# Altium footprint library fuse.PcbLib: 36 footprints (part 1 of 3)
Each footprint in its own frame and in the unit in brackets; x right, y up, seen from the top. Pads: shape width x height; smd on the part's side, far side on the other; paste and mask are expansions set on the pad; w line width, h text height; cw(c..) or ccw(c..) is an arc to the next point about the centre after c.
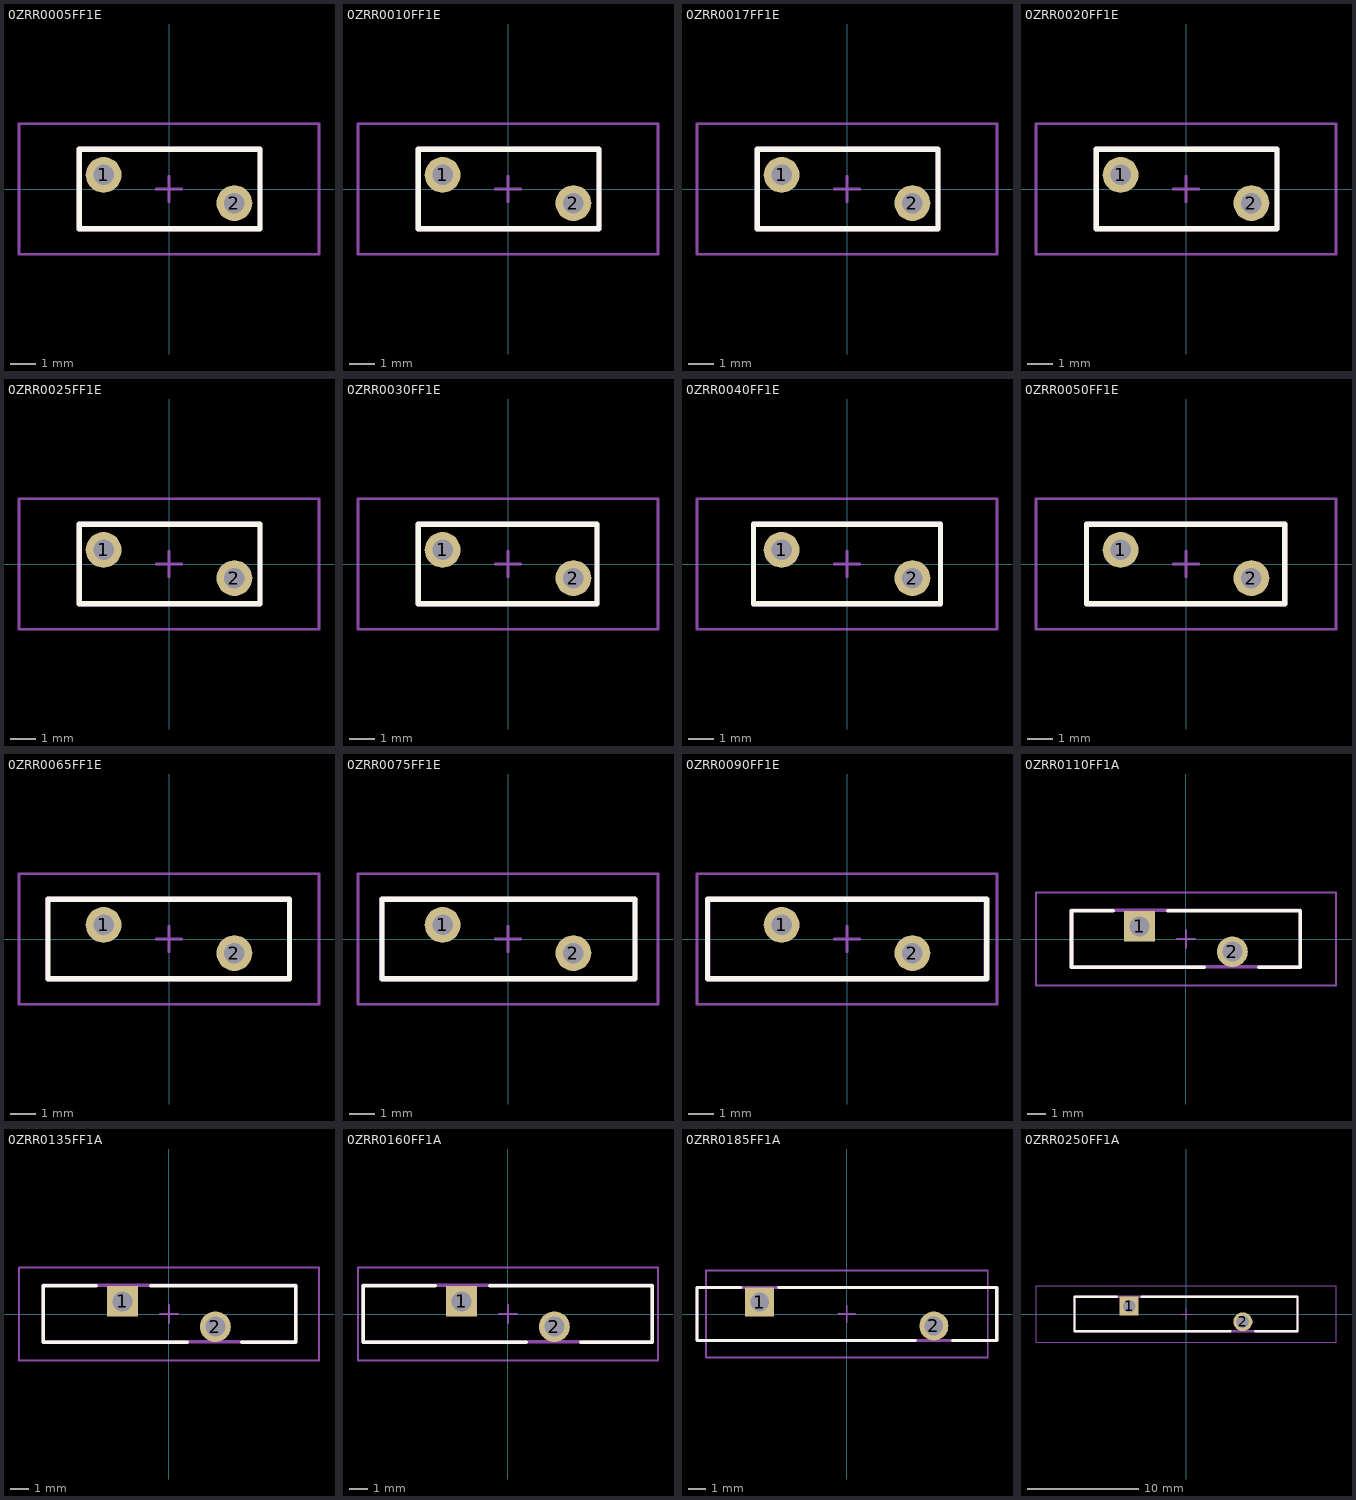
[diagram p0: the footprints below, top view; thin cyan lines are the x and y axes]

## 0ZRR0005FF1E [mm] "OZRR0005FF1E Ф7.4 h13.0 w3.1 c/f5.1 1.1 Ф0.51 mm"
pads (2):
  round 1.4 hole 0.8: 1(-2.55,0.55) 2(2.55,-0.55)
Top Overlay:
  lines w0.2: -3.5,-1.55 -3.5,1.55 3.55,1.55 3.55,-1.55 -3.5,-1.55
Top Designator:
  text ".Designator" at -3.174,1.975 h0.6
Top Assembly:
  lines w0.2: -3.5,-1.548 -3.5,1.552 3.55,1.552 3.55,-1.548 -3.5,-1.548
Top Courtyard:
  lines w0.1: -0.5,0 0.5,0 ; 0,-0.5 0,0.5 ; -3.475,-1.55 3.55,-1.55 3.55,1.55 -3.475,1.55 -3.475,-1.55
Mechanical 20:
  lines w0.1: -5.85,-2.55 -5.85,2.55 5.85,2.55 5.85,-2.55 -5.85,-2.55
3D body "0ZRR0005FF1E.stp": height 7.85, standoff -7.25, extent -2.805,-1.01 2.805,1.01

## 0ZRR0010FF1E [mm] "OZRR0010FF1E Ф7.4 h13.0 w3.1 c/f5.1 1.1 Ф0.51 mm"
pads (2):
  round 1.4 hole 0.8: 1(-2.55,0.55) 2(2.55,-0.55)
Top Overlay:
  lines w0.2: -3.5,-1.55 3.55,-1.55 3.55,1.55 -3.5,1.55 -3.5,-1.55
Top Designator:
  text ".Designator" at -3.174,1.975 h0.6
Top Assembly:
  lines w0.2: -3.5,-1.548 3.55,-1.548 3.55,1.552 -3.5,1.552 -3.5,-1.548
Top Courtyard:
  lines w0.1: -0.5,0 0.5,0 ; 0,-0.5 0,0.5 ; -3.475,-1.55 -3.475,1.55 3.55,1.55 3.55,-1.55 -3.475,-1.55
Mechanical 20:
  lines w0.1: -5.85,-2.55 5.85,-2.55 5.85,2.55 -5.85,2.55 -5.85,-2.55
3D body "0ZRR0010FF1E.stp": height 7.85, standoff -7.25, extent -2.803,-1.01 2.803,1.01

## 0ZRR0017FF1E [mm] "OZRR0017FF1E Ф7.4 h13.0 w3.1 c/f5.1 1.1 Ф0.51 mm"
pads (2):
  round 1.4 hole 0.8: 1(-2.55,0.55) 2(2.55,-0.55)
Top Overlay:
  lines w0.2: -3.5,-1.55 3.55,-1.55 3.55,1.55 -3.5,1.55 -3.5,-1.55
Top Designator:
  text ".Designator" at -3.174,1.975 h0.6
Top Assembly:
  lines w0.2: -3.5,-1.548 3.55,-1.548 3.55,1.552 -3.5,1.552 -3.5,-1.548
Top Courtyard:
  lines w0.1: -0.5,0 0.5,0 ; 0,-0.5 0,0.5 ; -3.475,-1.55 -3.475,1.55 3.55,1.55 3.55,-1.55 -3.475,-1.55
Mechanical 20:
  lines w0.1: -5.85,-2.55 5.85,-2.55 5.85,2.55 -5.85,2.55 -5.85,-2.55
3D body "0ZRR0017FF1E.stp": height 8.3, standoff -7.6, extent -2.803,-1.01 2.803,1.01

## 0ZRR0020FF1E [mm] "OZRR0020FF1E Ф7.4 h13.0 w3.1 c/f5.1 1.1 Ф0.51 mm"
pads (2):
  round 1.4 hole 0.8: 1(-2.55,0.55) 2(2.55,-0.55)
Top Overlay:
  lines w0.2: -3.5,-1.55 -3.5,1.55 3.55,1.55 3.55,-1.55 -3.5,-1.55
Top Designator:
  text ".Designator" at -3.174,1.975 h0.6
Top Assembly:
  lines w0.2: -3.5,-1.548 -3.5,1.552 3.55,1.552 3.55,-1.548 -3.5,-1.548
Top Courtyard:
  lines w0.1: -0.5,0 0.5,0 ; 0,-0.5 0,0.5 ; -3.475,-1.55 3.55,-1.55 3.55,1.55 -3.475,1.55 -3.475,-1.55
Mechanical 20:
  lines w0.1: -5.85,-2.55 -5.85,2.55 5.85,2.55 5.85,-2.55 -5.85,-2.55
3D body "0ZRR0020FF1E.stp": height 8.6, standoff -7.6, extent -2.805,-1.01 2.805,1.01

## 0ZRR0025FF1E [mm] "OZRR0025FF1E Ф7.4 h13.0 w3.1 c/f5.1 1.1 Ф0.51 mm"
pads (2):
  round 1.4 hole 0.8: 1(-2.55,0.55) 2(2.55,-0.55)
Top Overlay:
  lines w0.2: -3.5,-1.55 3.55,-1.55 3.55,1.55 -3.5,1.55 -3.5,-1.55
Top Designator:
  text ".Designator" at -3.174,1.975 h0.6
Top Assembly:
  lines w0.2: -3.5,-1.548 3.55,-1.548 3.55,1.552 -3.5,1.552 -3.5,-1.548
Top Courtyard:
  lines w0.1: -0.5,0 0.5,0 ; 0,-0.5 0,0.5 ; -3.475,-1.55 -3.475,1.55 3.55,1.55 3.55,-1.55 -3.475,-1.55
Mechanical 20:
  lines w0.1: -5.85,-2.55 5.85,-2.55 5.85,2.55 -5.85,2.55 -5.85,-2.55
3D body "0ZRR0025FF1E.stp": height 8.6, standoff -7.6, extent -2.803,-1.01 2.803,1.01

## 0ZRR0030FF1E [mm] "OZRR0030FF1E Ф7.4 h13.0 w3.1 c/f5.1 1.1 Ф0.51 mm"
pads (2):
  round 1.4 hole 0.8: 1(-2.55,0.55) 2(2.55,-0.55)
Top Overlay:
  lines w0.2: -3.5,-1.55 -3.5,1.55 3.475,1.55 3.475,-1.55 -3.5,-1.55
Top Designator:
  text ".Designator" at -3.174,1.975 h0.6
Top Assembly:
  lines w0.2: -3.5,-1.548 -3.5,1.552 3.475,1.552 3.475,-1.548 -3.5,-1.548
Top Courtyard:
  lines w0.1: -0.5,0 0.5,0 ; 0,-0.5 0,0.5 ; -3.5,-1.55 3.475,-1.55 3.475,1.55 -3.5,1.55 -3.5,-1.55
Mechanical 20:
  lines w0.1: -5.85,-2.55 -5.85,2.55 5.85,2.55 5.85,-2.55 -5.85,-2.55
3D body "0ZRR0030FF1E.stp": height 9.7, standoff -4.99, extent -3.225,-0.985 3.175,1.035

## 0ZRR0040FF1E [mm] "OZRR0040FF1E Ф7.6 h13.5 w3.1 c/f5.1 1.1 Ф0.51 mm"
pads (2):
  round 1.4 hole 0.8: 1(-2.55,0.55) 2(2.55,-0.55)
Top Overlay:
  lines w0.2: -3.65,-1.55 -3.65,1.55 3.65,1.55 3.65,-1.55 -3.65,-1.55
Top Designator:
  text ".Designator" at -3.174,1.975 h0.6
Top Assembly:
  lines w0.2: -3.65,-1.548 -3.65,1.552 3.65,1.552 3.65,-1.548 -3.65,-1.548
Top Courtyard:
  lines w0.1: -0.5,0 0.5,0 ; 0,-0.5 0,0.5 ; -3.65,-1.55 3.65,-1.55 3.65,1.55 -3.65,1.55 -3.65,-1.55
Mechanical 20:
  lines w0.1: -5.85,-2.55 -5.85,2.55 5.85,2.55 5.85,-2.55 -5.85,-2.55
3D body "0ZRR0040FF1E.stp": height 10.5, standoff -4.49, extent -3.5,-0.985 3.5,1.035

## 0ZRR0050FF1E [mm] "OZRR0050FF1E Ф7.9 h13.7 w3.1 c/f5.1 1.1 Ф0.51 mm"
pads (2):
  round 1.4 hole 0.8: 1(-2.55,0.55) 2(2.55,-0.55)
Top Overlay:
  lines w0.2: -3.875,-1.55 3.85,-1.55 3.85,1.55 -3.875,1.55 -3.875,-1.55
Top Designator:
  text ".Designator" at -3.174,1.975 h0.6
Top Assembly:
  lines w0.2: -3.875,-1.548 3.85,-1.548 3.85,1.552 -3.875,1.552 -3.875,-1.548
Top Courtyard:
  lines w0.1: -0.5,0 0.5,0 ; 0,-0.5 0,0.5 ; -3.875,-1.55 -3.875,1.55 3.85,1.55 3.85,-1.55 -3.875,-1.55
Mechanical 20:
  lines w0.1: -5.85,-2.55 5.85,-2.55 5.85,2.55 -5.85,2.55 -5.85,-2.55
3D body "0ZRR0050FF1E.stp": height 10.7, standoff -4.49, extent -3.698,-1.01 3.699,1.01

## 0ZRR0065FF1E [mm] "OZRR0065FF1E Ф9.7 h145 w3.1 c/f5.1 1.1 Ф0.51 mm"
pads (2):
  round 1.4 hole 0.8: 1(-2.55,0.55) 2(2.55,-0.55)
Top Overlay:
  lines w0.2: -4.725,-1.55 -4.725,1.55 4.7,1.55 4.7,-1.55 -4.725,-1.55
Top Designator:
  text ".Designator" at -3.174,1.975 h0.6
Top Assembly:
  lines w0.2: -4.732,-1.548 -4.732,1.552 4.7,1.552 4.7,-1.548 -4.732,-1.548
Top Courtyard:
  lines w0.1: -0.5,0 0.5,0 ; 0,-0.5 0,0.5 ; -4.725,-1.55 4.7,-1.55 4.7,1.55 -4.725,1.55 -4.725,-1.55
Mechanical 20:
  lines w0.1: -5.85,-2.55 -5.85,2.55 5.85,2.55 5.85,-2.55 -5.85,-2.55
3D body "0ZRR0065FF1E.stp": height 4.55, standoff -15.55, extent -4.548,-1.01 4.548,1.01

## 0ZRR0075FF1E [mm] "OZRR0075FF1E Ф10.4 h15.2 w3.1 c/f5.1 1.1 Ф0.51 mm"
pads (2):
  round 1.4 hole 0.8: 1(-2.55,0.55) 2(2.55,-0.55)
Top Overlay:
  lines w0.2: -4.916,-1.55 4.95,-1.55 4.95,1.55 -4.916,1.55 -4.916,-1.55
Top Designator:
  text ".Designator" at -3.174,1.975 h0.6
Top Assembly:
  lines w0.2: -4.925,-1.548 4.95,-1.548 4.95,1.552 -4.925,1.552 -4.925,-1.548
Top Courtyard:
  lines w0.1: -0.5,0 0.5,0 ; 0,-0.5 0,0.5 ; -4.925,-1.55 -4.925,1.55 4.95,1.55 4.95,-1.55 -4.925,-1.55
Mechanical 20:
  lines w0.1: -5.85,-2.55 5.85,-2.55 5.85,2.55 -5.85,2.55 -5.85,-2.55
3D body "0ZRR0075FF1E.stp": height 13.8, standoff -7.3, extent -4.775,-1.01 4.825,1.01

## 0ZRR0090FF1E [mm] "OZRR0090FF1E Ф11.7 h15.8 w3.1 c/f5.1 1.1 Ф0.51 mm"
pads (2):
  round 1.4 hole 0.8: 1(-2.55,0.55) 2(2.55,-0.55)
Top Overlay:
  lines w0.2: -5.437,-1.55 -5.437,1.55 5.45,1.55 5.45,-1.55 -5.437,-1.55
Top Designator:
  text ".Designator" at -3.174,1.975 h0.6
Top Assembly:
  lines w0.2: -5.425,-1.548 -5.425,1.552 5.425,1.552 5.425,-1.548 -5.425,-1.548
Top Courtyard:
  lines w0.1: -0.5,0 0.5,0 ; 0,-0.5 0,0.5 ; -5.425,-1.55 5.425,-1.55 5.425,1.55 -5.425,1.55 -5.425,-1.55
Mechanical 20:
  lines w0.1: -5.85,-2.55 -5.85,2.55 5.85,2.55 5.85,-2.55 -5.85,-2.55
3D body "0ZRR0090FF1E.stp": height 14.25, standoff -7.55, extent -5.249,-1.013 5.25,1.01

## 0ZRR0110FF1A [mm] "OZRR0110FF1A Ф13.0 h18.0 w3.1 c/f5.1 1.4 Ф0.81 mm"
pads (2):
  rect 1.7x1.7 hole 1.1: 1(-2.55,0.7)
  round 1.7 hole 1.1: 2(2.55,-0.7)
Top Overlay:
  lines w0.2: -4,1.55 -6.3,1.55 -6.3,-1.55 1,-1.55 ; -1,1.55 6.275,1.55 6.275,-1.55 4,-1.55
Top Designator:
  text ".Designator" at -3.199,1.975 h0.6
Top Assembly:
  lines w0.2: -1.025,1.575 -6.3,1.575 -6.3,-1.525 1,-1.525 6.275,-1.525 6.275,1.575 -1,1.575
Top Courtyard:
  lines w0.1: -0.5,0 0.5,0 ; 0,-0.5 0,0.5 ; -6.325,-1.55 -6.325,1.55 6.275,1.55 6.275,-1.55 -6.325,-1.55
Mechanical 20:
  lines w0.1: -8.25,-2.55 -8.25,2.55 8.25,2.55 8.25,-2.55 -8.25,-2.55
3D body "0ZRR0110FF1A.stp": height 14.1, standoff -6.8, extent -6.1,-1.36 6.1,1.36

## 0ZRR0135FF1A [mm] "OZRR0135FF1A Ф14.5 h19.6 w3.1 c/f5.1 1.4 Ф0.81 mm"
pads (2):
  rect 1.7x1.7 hole 1.1: 1(-2.55,0.7)
  round 1.7 hole 1.1: 2(2.55,-0.7)
Top Overlay:
  lines w0.2: -4,1.55 -6.925,1.55 -6.925,-1.55 1,-1.55 ; -1,1.55 6.975,1.55 6.975,-1.55 4,-1.55
Top Designator:
  text ".Designator" at -3.199,1.975 h0.6
Top Assembly:
  lines w0.2: -1.025,1.575 -6.925,1.575 -6.925,-1.525 1,-1.525 6.975,-1.525 6.975,1.575 -1,1.575
Top Courtyard:
  lines w0.1: -0.5,0 0.5,0 ; 0,-0.5 0,0.5 ; -6.9,-1.55 6.95,-1.55 6.95,1.55 -6.9,1.55 -6.9,-1.55
Mechanical 20:
  lines w0.1: -8.25,-2.55 8.25,-2.55 8.25,2.55 -8.25,2.55 -8.25,-2.55
3D body "0ZRR0135FF1A.stp": height 14.75, standoff -7.45, extent -6.748,-1.36 6.748,1.36

## 0ZRR0160FF1A [mm] "OZRR0160FF1A Ф16.3 h21.3 w3.1 c/f5.1 1.4 Ф0.81 mm"
pads (2):
  rect 1.7x1.7 hole 1.1: 1(-2.55,0.7)
  round 1.7 hole 1.1: 2(2.55,-0.7)
Top Overlay:
  lines w0.2: -4,1.55 -7.966,1.55 -7.966,-1.55 1,-1.55 ; -1,1.55 7.925,1.55 7.925,-1.55 4,-1.55
Top Designator:
  text ".Designator" at -3.199,1.975 h0.6
Top Assembly:
  lines w0.2: -1.025,1.575 -7.977,1.575 -7.977,-1.525 1,-1.525 1.002,-1.527 7.925,-1.527 7.925,1.575 -1,1.575
Top Courtyard:
  lines w0.1: -0.5,0 0.5,0 ; 0,-0.5 0,0.5 ; -8,-1.55 7.925,-1.55 7.925,1.55 -8,1.55 -8,-1.55
Mechanical 20:
  lines w0.1: -8.25,-2.55 -8.25,2.55 8.25,2.55 8.25,-2.55 -8.25,-2.55
3D body "0ZRR0160FF1A.stp": height 17.75, standoff -6.85, extent -7.75,-1.36 7.75,1.36

## 0ZRR0185FF1A [mm] "OZRR0185FF1A Ф17.8 h22.9 w3.1 c/f5.1 1.4 Ф0.81 mm"
pads (2):
  rect 1.7x1.7 hole 1.1: 1(-5.1,0.7)
  round 1.7 hole 1.1: 2(5.1,-0.7)
Top Overlay:
  lines w0.2: -6.2,1.55 -8.775,1.55 -8.775,-1.55 4,-1.55 ; -4,1.55 8.775,1.55 8.775,-1.55 6.2,-1.55
Top Designator:
  text ".Designator" at -3.199,1.975 h0.6
Top Assembly:
  lines w0.2: -8.775,-1.55 -8.775,1.55 -4,1.55 8.8,1.55 8.8,-1.55 4,-1.55 -8.775,-1.55
Top Courtyard:
  lines w0.1: -0.5,0 0.5,0 ; 0,-0.5 0,0.5 ; -8.775,-1.55 -8.775,1.55 8.8,1.55 8.8,-1.55 -8.775,-1.55
Mechanical 20:
  lines w0.1: -8.25,-2.55 8.25,-2.55 8.25,2.55 -8.25,2.55 -8.25,-2.55
3D body "0ZRR0185FF1A.stp": height 19.55, standoff -6.55, extent -8.55,-1.36 8.549,1.36

## 0ZRR0250FF1A [mm] "OZRR0250FF1A Ф21.3 h26.4 w3.1 c/f10.2 1.4 Ф0.81 mm"
pads (2):
  rect 1.7x1.7 hole 1.1: 1(-5.1,0.7)
  round 1.7 hole 1.1: 2(5.1,-0.7)
Top Overlay:
  lines w0.2: -6.2,1.55 -10,1.55 -10,-1.55 4,-1.55 ; -4,1.55 10,1.55 10,-1.55 6.2,-1.55
Top Designator:
  text ".Designator" at -3.199,1.975 h0.6
Top Assembly:
  lines w0.2: -10,-1.55 4,-1.55 10,-1.55 10,1.55 -4,1.55 -10,1.55 -10,-1.55
Top Courtyard:
  lines w0.1: -0.5,0 0.5,0 ; 0,-0.5 0,0.5 ; -9.975,-1.55 10,-1.55 10,1.55 -9.975,1.55 -9.975,-1.55
Mechanical 20:
  lines w0.1: -13.45,-2.55 13.45,-2.55 13.45,2.55 -13.45,2.55 -13.45,-2.55
3D body "0ZRR0250FF1A.stp": height 21.8, standoff -7, extent -9.8,-1.36 9.799,1.36